# EAGLE library part TEENSY_3.0_DIL (library teensy)
TEENSY 3.0 in a classic breadboard layout - pins between the two outer rows.
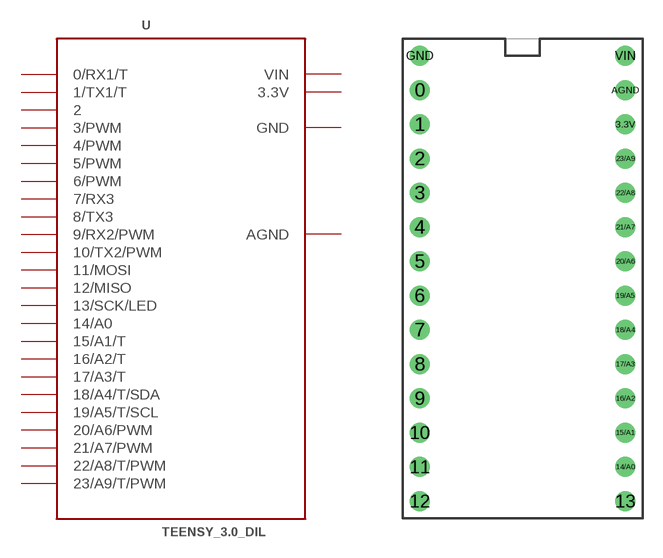
[diagram p6: symbol with the pads of TEENSY_3.0-3.2&LC_DIL; footprint TEENSY_3.0-3.2&LC_DIL]

Designator prefix -

## TEENSY_3.0_DIL  [TEENSY_3.0-3.2&LC_DIL]
0  0/RX1/T
1  1/TX1/T
2  2
3  3/PWM
3.3V  3.3V  pwr
4  4/PWM
5  5/PWM
6  6/PWM
7  7/RX3
8  8/TX3
9  9/RX2/PWM
10  10/TX2/PWM
11  11/MOSI
12  12/MISO
13  13/SCK/LED
14/A0  14/A0
15/A1  15/A1/T
16/A2  16/A2/T
17/A3  17/A3/T
18/A4  18/A4/T/SDA
19/A5  19/A5/T/SCL
20/A6  20/A6/PWM
21/A7  21/A7/PWM
22/A8  22/A8/T/PWM
23/A9  23/A9/T/PWM
AGND  AGND  pwr
GND  GND  pwr
VIN  VIN  pwr

## Footprint TEENSY_3.0-3.2&LC_DIL (pad centres in mm)
drill 0.965: 0 -7.62,13.97; 1 -7.62,11.43; 2 -7.62,8.89; 3 -7.62,6.35; 3.3V 7.62,11.43; 4 -7.62,3.81; 5 -7.62,1.27; 6 -7.62,-1.27; 7 -7.62,-3.81; 8 -7.62,-6.35; 9 -7.62,-8.89; 10 -7.62,-11.43; 11 -7.62,-13.97; 12 -7.62,-16.51; 13 7.62,-16.51; 14/A0 7.62,-13.97; 15/A1 7.62,-11.43; 16/A2 7.62,-8.89; 17/A3 7.62,-6.35; 18/A4 7.62,-3.81; 19/A5 7.62,-1.27; 20/A6 7.62,1.27; 21/A7 7.62,3.81; 22/A8 7.62,6.35; 23/A9 7.62,8.89; AGND 7.62,13.97; GND -7.62,16.51; VIN 7.62,16.51